# Altium schematic symbol library Schematic_Connector.SchLib: 35 symbols (part 1 of 2)
Pins are listed as number, name and electrical type; pins without a type are passive.

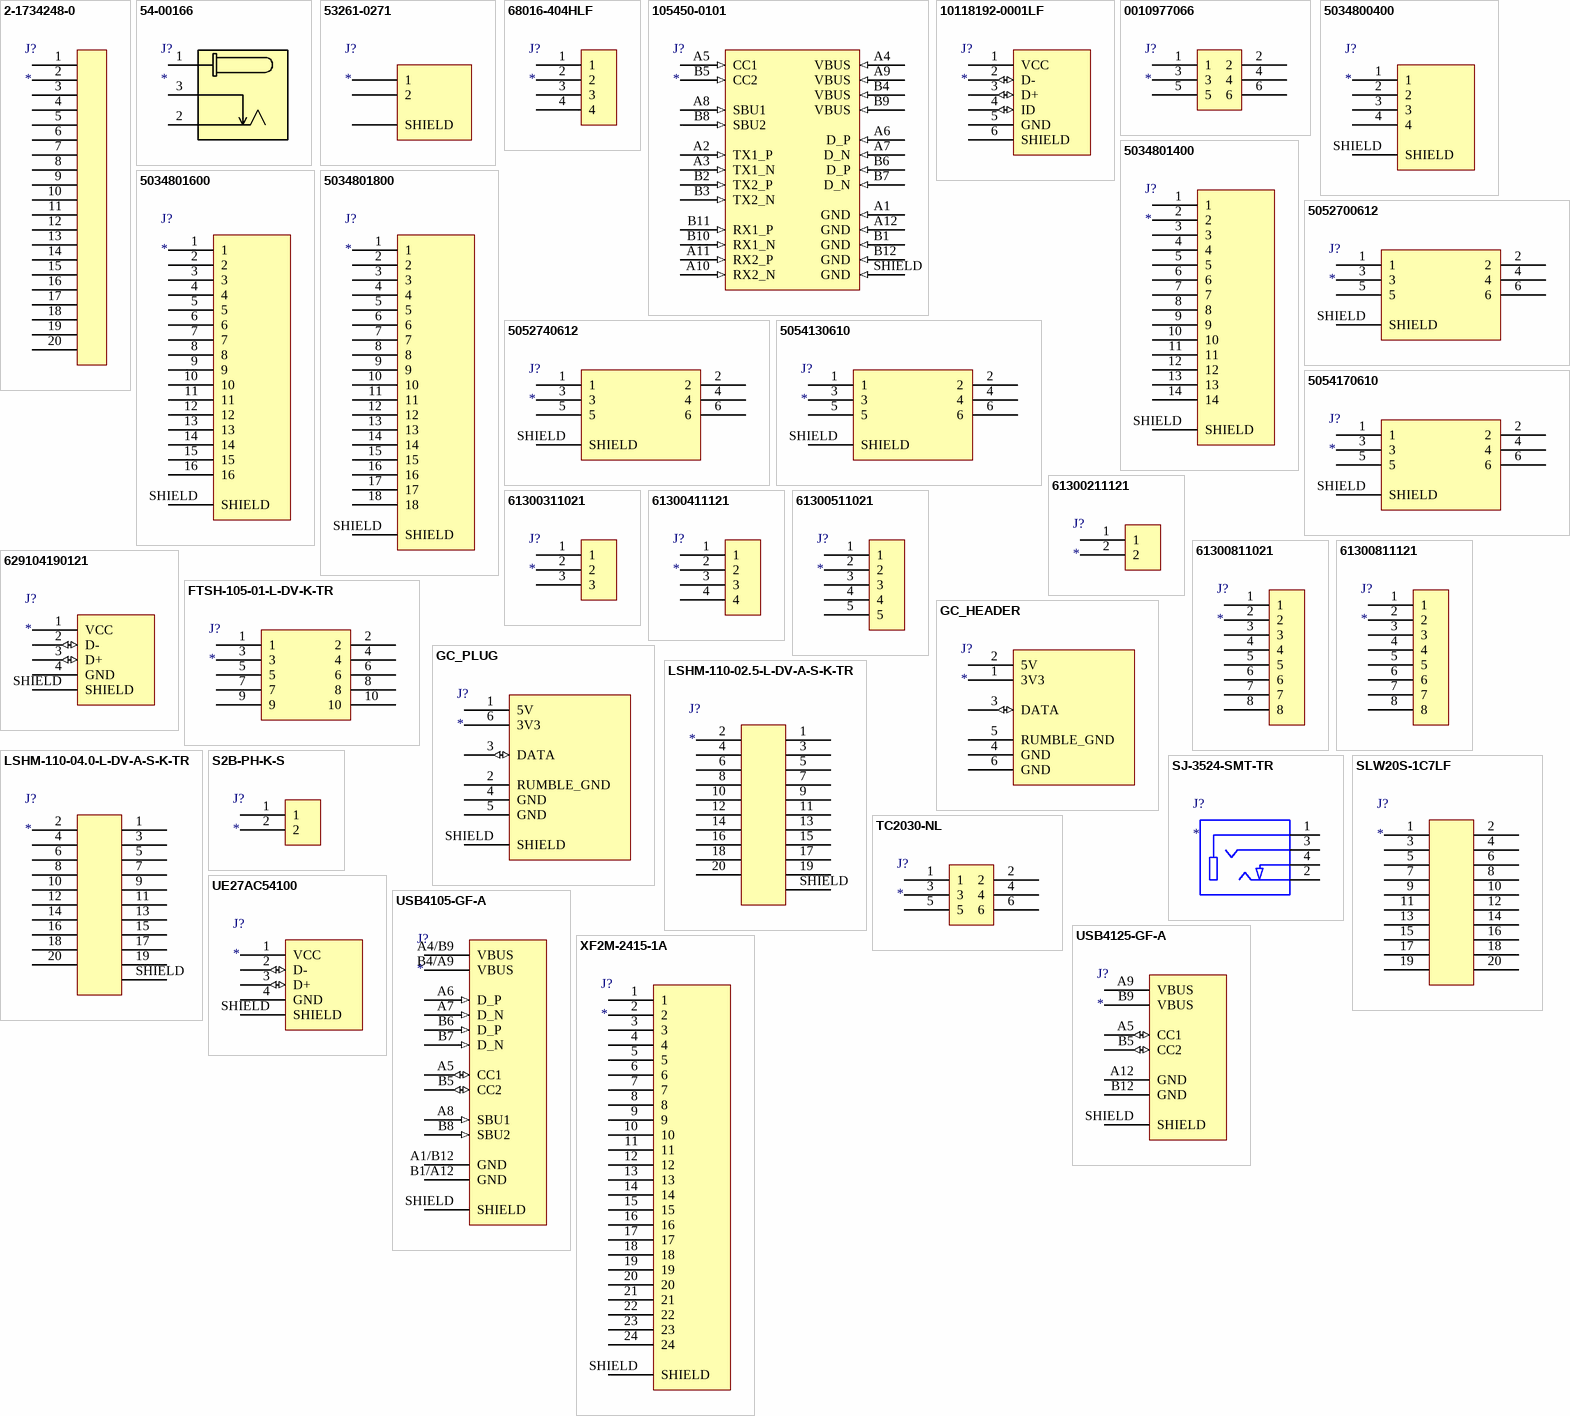
[diagram p0: symbols 2-1734248-0 to XF2M-2415-1A]

## 2-1734248-0
designator J?
FFC/FPC CONNECTOR, RECEPTACLE 20POS 1ROW; Manufacturer: TE Connectivity; Manufacturer Part Number: 2-1734248-0; Number of Contacts: 20; Contact Current Rating: 1A; Contact Location: Bottom; Connector Type: Receptacle,Connector,Socket; Wire/Cable Type: Flat Flex; Connector System: Flex-to-Board; Mating Alignment: Yes (With); PCB Mount Alignment: No (Without); PCB Mount Retention: With; PCB Mounting Orientation: Vertical; Gender: Male; Voltage Rating: 125V; Shielding: Unshielded; Pitch: 0.039inch; Supplier 1: Digi-Key; RoHS: Yes; Category: FFC / FPC; Stock 1: 651; Pricing 1: 1=1.62000, 10=1.47400, 25=1.38360, 50=1.32340, 100=1.26330, 250=1.14300, 500=1.05274 (USD); Mount: Surface Mount; Housing Color: Black; Housing Material: Thermoplastic; Contact Plating: Gold; Contact Material: Bronze; Min Operating Temperature: -4°C; Max Operating Temperature: 185°C; Termination: SMD/SMT; Orientation: Straight; Number of Rows: 1; Number of Positions: 20; Sealable: No (Without); Shrouded: Yes (With); Current Rating: 1A; Package Quantity: 1000; Packaging: Tape and Reel; Length: 27.4mm; Height: 7.7mm; Depth: 4.6mm; Width: 4.6mm; Radiation Hardening: No; REACH SVHC: Unknown; Flammability Rating: UL94 V-0; ELV: Compliant; Lead Free: Lead Free; ComponentLink1URL: https://datasheet.ciiva.com/1446/1652249-1446928.pdf?src-supplier=Farnell; ComponentLink1Description: https://datasheet.ciiva.com/1446/1652249-1446928.pdf?src-supplier=Farnell; ComponentLink2URL: https://datasheet.ciiva.com/43513/eng-ds-1-1773440-6-0506-43513462.pdf?src-supplier=Onlinecomponents.com; ComponentLink2Description: https://datasheet.ciiva.com/43513/eng-ds-1-1773440-6-0506-43513462.pdf?src-supplier=Onlinecomponents.com; ComponentLink3URL: https://datasheet.ciiva.com/669/eng-cd-1734248-e1-669771.pdf?src-supplier=Digi-Key; ComponentLink3Description: https://datasheet.ciiva.com/669/eng-cd-1734248-e1-669771.pdf?src-supplier=Digi-Key; ComponentLink4URL: https://datasheet.ciiva.com/669/eng-cd-1734248-e1-669772.pdf?src-supplier=Digi-Key; ComponentLink4Description: https://datasheet.ciiva.com/669/eng-cd-1734248-e1-669772.pdf?src-supplier=Digi-Key; ComponentLink5URL: https://datasheet.ciiva.com/669/eng-cd-1734248-e1-669773.pdf?src-supplier=Digi-Key; ComponentLink5Description: https://datasheet.ciiva.com/669/eng-cd-1734248-e1-669773.pdf?src-supplier=Digi-Key; ComponentLink6URL: https://datasheet.ciiva.com/1437/586796-1437710.pdf?src-supplier=Element14; ComponentLink6Description: https://datasheet.ciiva.com/1437/586796-1437710.pdf?src-supplier=Element14
footprint 2-1734248-0 (CONN FPC VERT 20POS 1.00MM SMD)
pins: 1, 2, 3, 4, 5, 6, 7, 8, 9, 10, 11, 12, 13, 14, 15, 16, 17, 18, 19, 20

## 54-00166
designator J?
Conn DC Power F 2 POS Solder RA Thru-Hole 3 Terminal 1 Port Bag; Manufacturer: Tensility; Manufacturer Part Number: 54-00166; Current Rating: 6A; Voltage Rating: 48V; Supplier 1: DigiKey; RoHS: Compliant; Category: Connectors; Stock 1: 8572; Pricing 1: 1=0.54, 10=0.456, 25=0.4276, 50=0.4072, 100=0.3876, 250=0.36332, 500=0.34596, 1000=0.32943, 2500=0.3088 (USD); Contact Plating: Tin; Max Operating Temperature: 70°C; Min Operating Temperature: -20°C; REACH SVHC: No; ComponentLink1URL: https://datasheet.octopart.com:443/54-00166-Tensility-datasheet-181385035.pdf?src-supplier=Master+Electronics; ComponentLink1Description: https://datasheet.octopart.com:443/54-00166-Tensility-datasheet-181385035.pdf?src-supplier=Master+Electronics
footprint 54-00166 (CONN JACK R/A PCB 5.5X2.1MM)
pins: 1 CENTER, 2 SLEEVE, 3 DETECT

## 53261-0271
designator J?
MOLEX - 53261-0271 - CONNECTOR, HEADER, 2POS, 1ROW, 1.25MM; Number of Positions: 2; Gender: Male; Contact Resistance: 20mR; Voltage Rating: 125V; Current Rating: 1A; Insulation Resistance: 100MR; Glow Wire Compliant: Non-compliant; Supplier 1: Digi-Key; Manufacturer: Molex; Manufacturer Part Number: 53261-0271; RoHS: Yes; Category: Headers and Wire Housings; Stock 1: 27056; Pricing 1: 1=0.51000, 10=0.48200, 100=0.36940, 500=0.32120 (USD); Mount: Surface Mount; Contact Material: Bronze,Tin; Contact Plating: Tin; Color: Beige; Housing Material: Thermoplastic; Min Operating Temperature: -40°C; Max Operating Temperature: 85°C; Number of Rows: 1; Packaging: Tape and Reel; Termination: SMD/SMT; Voltage Rating (AC): 125V; Package Quantity: 1000; Number of Contacts: 2; Working Voltage: 125V; Orientation: Right Angle; Number of Circuits: 2; Voltage Rating (DC): 125V; Lead Pitch: 1.25mm; Pitch: 1.25mm; Radiation Hardening: No; Flammability Rating: UL94 V-0; REACH SVHC: Unknown; Lead Free: Lead Free; ComponentLink1URL: https://datasheet.ciiva.com/11747/0900766b8078fc90-11747475.pdf?src-supplier=RSComponents; ComponentLink1Description: https://datasheet.ciiva.com/11747/0900766b8078fc90-11747475.pdf?src-supplier=RSComponents; ComponentLink2URL: https://datasheet.ciiva.com/7167/1626147-7167496.pdf?src-supplier=Newark; ComponentLink2Description: https://datasheet.ciiva.com/7167/1626147-7167496.pdf?src-supplier=Newark; ComponentLink3URL: https://datasheet.ciiva.com/30193/198270532610271-pcb-headers-30193321.pdf?src-supplier=Onlinecomponents.com; ComponentLink3Description: https://datasheet.ciiva.com/30193/198270532610271-pcb-headers-30193321.pdf?src-supplier=Onlinecomponents.com; ComponentLink4URL: https://datasheet.ciiva.com/5151/0532610271-pcb-headers-171053-5151611.pdf?src-supplier=Mouser; ComponentLink4Description: https://datasheet.ciiva.com/5151/0532610271-pcb-headers-171053-5151611.pdf?src-supplier=Mouser; ComponentLink5URL: https://datasheet.ciiva.com/34303/1932547-34303342.pdf?src-supplier=Jameco; ComponentLink5Description: https://datasheet.ciiva.com/34303/1932547-34303342.pdf?src-supplier=Jameco; ComponentLink6URL: https://datasheet.ciiva.com/16658/0532610271-pcb-headers-16658423.pdf?src-supplier=Avnet+Europe; ComponentLink6Description: https://datasheet.ciiva.com/16658/0532610271-pcb-headers-16658423.pdf?src-supplier=Avnet+Europe; ComponentLink7URL: https://datasheet.ciiva.com/17035/70091115-17035863.pdf?src-supplier=Allied+Electronics; ComponentLink7Description: https://datasheet.ciiva.com/17035/70091115-17035863.pdf?src-supplier=Allied+Electronics; ComponentLink8URL: https://datasheet.ciiva.com/7920/1887027-7920826.pdf?src-supplier=Element14; ComponentLink8Description: https://datasheet.ciiva.com/7920/1887027-7920826.pdf?src-supplier=Element14; ComponentLink9URL: https://datasheet.ciiva.com/9468/0532610271-pcb-headers-9468506.pdf?src-supplier=Avnet; ComponentLink9Description: https://datasheet.ciiva.com/9468/0532610271-pcb-headers-9468506.pdf?src-supplier=Avnet; ComponentLink10URL: https://datasheet.ciiva.com/22683/1626147-22683562.pdf?src-supplier=Element14; ComponentLink10Description: https://datasheet.ciiva.com/22683/1626147-22683562.pdf?src-supplier=Element14; ComponentLink11URL: https://datasheet.ciiva.com/46393/1808526-46393547.pdf?src-supplier=Element14; ComponentLink11Description: https://datasheet.ciiva.com/46393/1808526-46393547.pdf?src-supplier=Element14
footprint 0532610271 (CONN HEADER SMD R/A 2POS 1.25MM)
pins: 1, 2, SHIELD

## 68016-404HLF
designator J?
CONN HEADER 4POS .100 R/A TIN; Manufacturer: Amphenol FCI; Manufacturer Part Number: 68016-404HLF; Current Rating: 3A; Voltage Rating: 1.5kV; Number of Positions: 4; Insulation Resistance: 5GR; Gender: Male; Connector Type: Male Pin; Pitch: 2.54mm; Contact Post Length: 3.05mm; Supplier 1: Digi-Key; Stock 1: 4219; Pricing 1: 1=0.18000, 10=0.17000, 100=0.11800, 500=0.09988, 1000=0.08172, 5000=0.07264, 10000=0.06583 (USD); RoHS: Yes; Mount: Through Hole; Contact Plating: Tin; Contact Material: Bronze; Color: Black; Housing Color: Black; Housing Material: Thermoplastic; Min Operating Temperature: -65°C; Max Operating Temperature: 125°C; Number of Rows: 1; Contact Gender: Male; Packaging: Bulk; Package Quantity: 100; Termination: Solder; Number of Contacts: 4; Max Voltage Rating (AC): 1.5kV; Orientation: Right Angle; Length: 10.16mm; Contact Mating Length: 0.23inch; Depth: 9.9mm; Radiation Hardening: No; Flammability Rating: UL94 V-0; Lead Free: Lead Free; ComponentLink1URL: https://datasheet.ciiva.com/10144/68015-10144694.pdf?src-supplier=Avnet; ComponentLink1Description: https://datasheet.ciiva.com/10144/68015-10144694.pdf?src-supplier=Avnet; ComponentLink2URL: https://datasheet.ciiva.com/721/68015-721854.pdf?src-supplier=Digi-Key; ComponentLink2Description: https://datasheet.ciiva.com/721/68015-721854.pdf?src-supplier=Digi-Key
footprint 68016-404HLF (CONN HEADER 4POS .100 R/A TIN)
pins: 1, 2, 3, 4

## 105450-0101
designator J?
USB Shielded I/O Receptacle; Type C; Right Angle; Surface Mount; Gold over Nickel; Manufacturer: Molex; Manufacturer Part Number: 105450-0101; USB Standard: USB 3.1; Number of Contacts: 24; Number of Ports: 1; Current Rating: 5A; Mating Cycles: 10000; Pitch: 0.5mm; Supplier 1: Digi-Key; RoHS: Yes; Category: Connectors; Stock 1: 5403; Pricing 1: 1=2.15000, 10=1.94900, 25=1.82960, 50=1.75000, 100=1.67050, 250=1.51140, 500=1.39208 (USD); Mount: Surface Mount,Through Hole,Horizontal; Case/Package: 0101; Number of Pins: 24; Contact Material: Copper Alloy; Contact Plating: Gold; Number of Terminals: 24; Insulation Color: Black; Housing Material: Thermoplastic; Min Operating Temperature: -30°C; Max Operating Temperature: 85°C; Packaging: Tape and Reel; Connector Type: USB; Gender: Receptacle; Termination: Solder; Orientation: Right Angle; Shielding: Shielded; Features: Shielded; Length: 8.94mm; REACH SVHC: Unknown; Flammability Rating: UL94 V-0; ComponentLink1URL: http://www.farnell.com/datasheets/2801634.pdf?src-supplier=Farnell; ComponentLink1Description: http://www.farnell.com/datasheets/2801634.pdf?src-supplier=Farnell; ComponentLink2URL: http://www.farnell.com/datasheets/2672741.pdf?src-supplier=Newark; ComponentLink2Description: http://www.farnell.com/datasheets/2672741.pdf?src-supplier=Newark; ComponentLink3URL: http://www.farnell.com/datasheets/2015275.pdf?src-supplier=Element14; ComponentLink3Description: http://www.farnell.com/datasheets/2015275.pdf?src-supplier=Element14; ComponentLink4URL: https://www.molex.com/pdm_docs/ps/PS-105448-001.pdf?src-supplier=Digi-Key; ComponentLink4Description: https://www.molex.com/pdm_docs/ps/PS-105448-001.pdf?src-supplier=Digi-Key; ComponentLink5URL: http://www.farnell.com/datasheets/2801634.pdf?src-supplier=Newark; ComponentLink5Description: http://www.farnell.com/datasheets/2801634.pdf?src-supplier=Newark; ComponentLink6URL: https://www.molex.com/pdm_docs/sd/1054500101_sd.pdf?src-supplier=Digi-Key; ComponentLink6Description: https://www.molex.com/pdm_docs/sd/1054500101_sd.pdf?src-supplier=Digi-Key; ComponentLink7URL: http://www.farnell.com/datasheets/2801634.pdf?src-supplier=Element14; ComponentLink7Description: http://www.farnell.com/datasheets/2801634.pdf?src-supplier=Element14; ComponentLink8URL: http://www.literature.molex.com/SQLImages/kelmscott/Molex/PDF_Images/987651-4081.PDF?src-supplier=Avnet; ComponentLink8Description: http://www.literature.molex.com/SQLImages/kelmscott/Molex/PDF_Images/987651-4081.PDF?src-supplier=Avnet; ComponentLink9URL: http://www.literature.molex.com/SQLImages/kelmscott/Molex/PDF_Images/987651-4081.PDF?src-supplier=Avnet+Asia; ComponentLink9Description: http://www.literature.molex.com/SQLImages/kelmscott/Molex/PDF_Images/987651-4081.PDF?src-supplier=Avnet+Asia
footprint 1054500101 (CONN RCP USB3.1 TYPEC 24P SMD RA)
pins: A1 GND (in), A2 TX1_P (in), A3 TX1_N (in), A4 VBUS (in), A5 CC1 (in), A6 D_P (in), A7 D_N (in), A8 SBU1 (in), A9 VBUS (in), A10 RX2_N (in), A11 RX2_P (in), A12 GND (in), B1 GND (in), B2 TX2_P (in), B3 TX2_N (in), B4 VBUS (in), B5 CC2 (in), B6 D_P (in), B7 D_N (in), B8 SBU2 (in), B9 VBUS (in), B10 RX1_N (in), B11 RX1_P (in), B12 GND (in), SHIELD GND (in)

## 10118192-0001LF
designator J?
Conn Micro USB 2.0 Type B RCP 5 POS 0.65mm Solder RA SMD 5 Terminal 1 Port T/R; Manufacturer: Framatome Connectors; Manufacturer Part Number: 10118192-0001LF; Gender: Receptacle; Current Rating: 1.8A; Number of Contacts: 5; Insulation Resistance: 1GR; Number of Ports: 1; Max Voltage Rating (AC): 100V; USB Standard: USB 2.0; Supplier 1: Digi-Key; Stock 1: 43734; Pricing 1: 1 = 0.43000, 10 = 0.40500, 25 = 0.36440, 50 = 0.32400, 100 = 0.31040, 250 = 0.28344, 500 = 0.26994 (USD); Mount: Surface Mount; Contact Material: Copper Alloy; Contact Plating: Gold; Color: Black; Number of Terminals: 5; Housing Material: Polymer; Min Operating Temperature: -55°C; Max Operating Temperature: 85°C; Packaging: Tape and Reel; Package Quantity: 1400; Connector Type: USB; Termination: Solder; Voltage Rating: 100V; Orientation: Right Angle; Features: Shielded; Length: 7.86mm; Pitch: 0.65mm; Depth: 5.57mm; Radiation Hardening: No; REACH SVHC: No SVHC; Lead Free: Lead Free; Flammability Rating: UL94 V-0; ComponentLink1URL: https://datasheet.ciiva.com/26853/getdatasheetpartid-418041-26853891.pdf?src-supplier=Verical; ComponentLink1Description: https://datasheet.ciiva.com/26853/getdatasheetpartid-418041-26853891.pdf?src-supplier=Verical; ComponentLink2URL: https://datasheet.ciiva.com/851/10118192-851112.pdf?src-supplier=Digi-Key; ComponentLink2Description: https://datasheet.ciiva.com/851/10118192-851112.pdf?src-supplier=Digi-Key; ComponentLink3URL: https://datasheet.ciiva.com/4598/10118192ac-197249-4598796.pdf?src-supplier=Mouser; ComponentLink3Description: https://datasheet.ciiva.com/4598/10118192ac-197249-4598796.pdf?src-supplier=Mouser; ComponentLink4URL: http://datasheet.octopart.com/10118192-0001LF-FCI-datasheet-55953129.pdf?src-supplier=TME; ComponentLink4Description: http://datasheet.octopart.com/10118192-0001LF-FCI-datasheet-55953129.pdf?src-supplier=TME; ComponentLink5URL: http://datasheet.octopart.com/10118192-0001LF-FCI-datasheet-13423637.pdf?src-supplier=Allied+Electronics; ComponentLink5Description: http://datasheet.octopart.com/10118192-0001LF-FCI-datasheet-13423637.pdf?src-supplier=Allied+Electronics; ComponentLink6URL: http://datasheet.octopart.com/10118192-0001LF-Amphenol-datasheet-96019471.pdf?src-supplier=Newark; ComponentLink6Description: http://datasheet.octopart.com/10118192-0001LF-Amphenol-datasheet-96019471.pdf?src-supplier=Newark; ComponentLink7URL: http://datasheet.octopart.com/10118192-0001LF-Amphenol-ICC-datasheet-96019471.pdf?src-supplier=Element14; ComponentLink7Description: http://datasheet.octopart.com/10118192-0001LF-Amphenol-ICC-datasheet-96019471.pdf?src-supplier=Element14; ComponentLink8URL: http://datasheet.octopart.com/10118192-0001LF-Amphenol-ICC-datasheet-55953129.pdf?src-supplier=Future+Electronics; ComponentLink8Description: http://datasheet.octopart.com/10118192-0001LF-Amphenol-ICC-datasheet-55953129.pdf?src-supplier=Future+Electronics; ComponentLink9URL: http://datasheet.octopart.com/10118192-0001LF-Amphenol-ICC-datasheet-13423637.pdf?src-supplier=Allied+Electronics; ComponentLink9Description: http://datasheet.octopart.com/10118192-0001LF-Amphenol-ICC-datasheet-13423637.pdf?src-supplier=Allied+Electronics; ComponentLink10URL: http://datasheet.octopart.com/10118192-0001LF-ICC-datasheet-96019471.pdf?src-supplier=Farnell; ComponentLink10Description: http://datasheet.octopart.com/10118192-0001LF-ICC-datasheet-96019471.pdf?src-supplier=Farnell; ComponentLink11URL: http://datasheet.octopart.com/10118192-0001LF-ICC-datasheet-55953129.pdf?src-supplier=Farnell; ComponentLink11Description: http://datasheet.octopart.com/10118192-0001LF-ICC-datasheet-55953129.pdf?src-supplier=Farnell
footprint 10118192-0001LF (Conn Micro USB 2.0 Type B RCP 5 POS 0.65mm Solder RA SMD 5 Terminal 1 Port T/R)
pins: 1 VCC (power), 2 D- (io), 3 D+ (io), 4 ID (io), 5 GND (power), 6 SHIELD

## 0010977066
designator J?
Conn Unshrouded Header HDR 6 POS 2.54mm Solder ST Thru-Hole C-GridR Bag; Manufacturer: Molex; Manufacturer Part Number: 0010977066; Contact Resistance: 15mR; Number of Positions: 6; Gender: Male; Connector Type: Male Pin; Row Spacing: 0.1inch; Supplier 1: Digi-Key; RoHS: Yes; Category: Headers and Wire Housings; Stock 1: 5007; Pricing 1: 1=0.51000, 10=0.43300, 100=0.33700, 1000=0.26481, 5000=0.23271, 10000=0.21666 (USD); Mount: Through Hole; Contact Plating: Gold; Contact Material: Copper Alloy; Housing Material: Polymer; Color: Black; Housing Color: Black; Min Operating Temperature: -40°C; Max Operating Temperature: 105°C; Number of Rows: 2; Packaging: Bulk; Termination: Solder; Number of Contacts: 6; Orientation: Straight; Series: C-Grid® 70280; Contact Type: Male Pin; Length: 7.62mm; Pitch: 2.54mm; Contact Mating Length: 0.32inch; Depth: 5.08mm; RoHS Compliant: Yes; ComponentLink1URL: https://datasheet.ciiva.com/742/010879125-sd-742670.pdf?src-supplier=Digi-Key; ComponentLink1Description: https://datasheet.ciiva.com/742/010879125-sd-742670.pdf?src-supplier=Digi-Key; ComponentLink2URL: https://datasheet.ciiva.com/10087/0010977066-pcb-headers-10087740.pdf?src-supplier=Avnet; ComponentLink2Description: https://datasheet.ciiva.com/10087/0010977066-pcb-headers-10087740.pdf?src-supplier=Avnet
footprint 3X2 MALE HEADER (CONN HEADER VERT 6POS 2.54MM)
pins: 1, 2, 3, 4, 5, 6

## 5034800400
designator J?
CONN FFC FPC 4POS 0.50MM R/A; Manufacturer: Molex; Manufacturer Part Number: 5034800400; Actuator Material: Nylon,Glass,Polyamide; Current Rating: 500mA; Voltage Rating: 50V; Wire/Cable Type: Straight; Number of Positions: 4; Mating Cycles: 10; Stackable: No; Gender: Female; Pitch: 0.5mm; Supplier 1: Digi-Key; RoHS: Yes; Category: FFC / FPC; Stock 1: 13432; Pricing 1: 1=0.70000, 10=0.65200, 25=0.58640, 50=0.52140, 100=0.49970, 250=0.45624, 500=0.43450, 1000=0.35846 (USD); Contact Material: Bronze; Contact Plating: Gold; Housing Color: White; Housing Material: Polymer; Material: Bronze; Min Operating Temperature: -40°C; Max Operating Temperature: 85°C; Number of Rows: 1; Orientation: Right Angle; Termination: Solder; Package Quantity: 1; Packaging: Tape and Reel; Max Voltage Rating (AC): 50V; Number of Contacts: 4; Max Voltage Rating (DC): 50V; Number of Circuits: 4; Voltage Rating (AC): 50V; Length: 3.7mm; Depth: 4mm; Radiation Hardening: No; Flammability Rating: UL94 V-0; REACH SVHC: No SVHC; Halogen Free: Low Halogen; ELV: Compliant; ComponentLink1URL: https://datasheet.ciiva.com/671/5034800400-sd-671136.pdf?src-supplier=Digi-Key; ComponentLink1Description: https://datasheet.ciiva.com/671/5034800400-sd-671136.pdf?src-supplier=Digi-Key; ComponentLink2URL: https://datasheet.ciiva.com/15249/392825034800400-ffc-fpc-nectors-15249120.pdf?src-supplier=Arrow+Europe; ComponentLink2Description: https://datasheet.ciiva.com/15249/392825034800400-ffc-fpc-nectors-15249120.pdf?src-supplier=Arrow+Europe; ComponentLink3URL: https://datasheet.ciiva.com/16658/5034800400-ffc-fpc-connectors-16658883.pdf?src-supplier=Avnet+Europe; ComponentLink3Description: https://datasheet.ciiva.com/16658/5034800400-ffc-fpc-connectors-16658883.pdf?src-supplier=Avnet+Europe; ComponentLink4URL: https://datasheet.ciiva.com/3926/135095034800400-ffc-fpc-nectors-3926214.pdf?src-supplier=Arrow; ComponentLink4Description: https://datasheet.ciiva.com/3926/135095034800400-ffc-fpc-nectors-3926214.pdf?src-supplier=Arrow; ComponentLink5URL: https://datasheet.ciiva.com/5137/5034800400-ffc-fpc-connectors-179546-5137607.pdf?src-supplier=Mouser; ComponentLink5Description: https://datasheet.ciiva.com/5137/5034800400-ffc-fpc-connectors-179546-5137607.pdf?src-supplier=Mouser; ComponentLink6URL: https://datasheet.ciiva.com/671/5034800400-sd-671137.pdf?src-supplier=Digi-Key; ComponentLink6Description: https://datasheet.ciiva.com/671/5034800400-sd-671137.pdf?src-supplier=Digi-Key; ComponentLink7URL: https://datasheet.ciiva.com/671/5034800400-sd-671138.pdf?src-supplier=Digi-Key; ComponentLink7Description: https://datasheet.ciiva.com/671/5034800400-sd-671138.pdf?src-supplier=Digi-Key; ComponentLink8URL: https://datasheet.ciiva.com/10366/5034800400-ffc-fpc-connectors-10366566.pdf?src-supplier=Avnet; ComponentLink8Description: https://datasheet.ciiva.com/10366/5034800400-ffc-fpc-connectors-10366566.pdf?src-supplier=Avnet
footprint 5034800400 (CONN FFC FPC 4POS 0.50MM R/A)
pins: 1, 2, 3, 4, SHIELD

## 5034801400
designator J?
CONN FFC FPC 14POS 0.50MM R/A; Manufacturer: Molex; Manufacturer Part Number: 5034801400; Actuator Material: Nylon,Glass,Polyamide; Number of Contacts: 14; Stackable: No; Max Voltage Rating (AC): 50V; Gender: Receptacle; Current Rating: 500mA; Wire/Cable Type: Straight; Mating Cycles: 10; Pitch: 0.5mm; Supplier 1: Digi-Key; RoHS: Yes; Category: FFC / FPC; Stock 1: 6972; Pricing 1: 1=1.24000, 10=1.08800, 25=1.02440, 50=0.98160, 100=0.93900, 250=0.85360, 500=0.76824, 1000=0.68288 (USD); Housing Material: Polymer; Material: Bronze; Housing Color: White; Contact Material: Bronze; Contact Plating: Gold; Min Operating Temperature: -40°C; Max Operating Temperature: 85°C; Termination: Solder; Orientation: Right Angle; Number of Rows: 1; Number of Positions: 14; Max Voltage Rating (DC): 50V; Packaging: Tape and Reel; Number of Circuits: 14; Package Quantity: 3000; Voltage Rating: 50V; Length: 8.7mm; Depth: 4mm; Radiation Hardening: No; Flammability Rating: UL94 V-0; REACH SVHC: Unknown; Halogen Free: Low Halogen; ELV: Compliant; ComponentLink1URL: https://datasheet.ciiva.com/671/5034800400-sd-671136.pdf?src-supplier=Digi-Key; ComponentLink1Description: https://datasheet.ciiva.com/671/5034800400-sd-671136.pdf?src-supplier=Digi-Key; ComponentLink2URL: https://datasheet.ciiva.com/5136/5034801400-ffc-fpc-connectors-179606-5136966.pdf?src-supplier=Mouser; ComponentLink2Description: https://datasheet.ciiva.com/5136/5034801400-ffc-fpc-connectors-179606-5136966.pdf?src-supplier=Mouser; ComponentLink3URL: https://datasheet.ciiva.com/10364/5034801400-ffc-fpc-connectors-10364270.pdf?src-supplier=Avnet; ComponentLink3Description: https://datasheet.ciiva.com/10364/5034801400-ffc-fpc-connectors-10364270.pdf?src-supplier=Avnet; ComponentLink4URL: https://datasheet.ciiva.com/671/5034801400-sd-671233.pdf?src-supplier=Digi-Key; ComponentLink4Description: https://datasheet.ciiva.com/671/5034801400-sd-671233.pdf?src-supplier=Digi-Key
footprint 5034801400 (CONN FFC FPC 14POS 0.50MM R/A)
pins: 1, 2, 3, 4, 5, 6, 7, 8, 9, 10, 11, 12, 13, 14, SHIELD

## 5034801600
designator J?
CONN FFC FPC 16POS 0.50MM R/A; Manufacturer: Molex; Manufacturer Part Number: 5034801600; Actuator Material: Nylon,Glass,Polyamide; Current Rating: 500mA; Voltage Rating: 50V; Wire/Cable Type: Straight; Number of Positions: 16; Mating Cycles: 10; Gender: Receptacle; Pitch: 0.5mm; Supplier 1: Digi-Key; RoHS: Yes; Category: FFC / FPC; Stock 1: 18938; Pricing 1: 1=1.32000, 10=1.15900, 25=1.09040, 50=1.04500, 100=0.99950, 250=0.90868, 500=0.81782, 1000=0.72694 (USD); Mount: Surface Mount; Contact Material: Bronze; Contact Plating: Gold; Housing Color: White; Housing Material: Polymer; Material: Bronze; Min Operating Temperature: -40°C; Max Operating Temperature: 85°C; Number of Rows: 1; Packaging: Tape and Reel; Package Quantity: 3000; Orientation: Right Angle; Termination: Solder; Number of Contacts: 16; Number of Circuits: 16; Voltage Rating (AC): 50V; Max Voltage Rating (AC): 50V; Max Voltage Rating (DC): 50V; Length: 9.7mm; Depth: 4mm; Radiation Hardening: No; Flammability Rating: UL94 V-0; Halogen Free: Low Halogen; ELV: Compliant; REACH SVHC: No SVHC; ComponentLink1URL: https://datasheet.ciiva.com/671/5034800400-sd-671136.pdf?src-supplier=Digi-Key; ComponentLink1Description: https://datasheet.ciiva.com/671/5034800400-sd-671136.pdf?src-supplier=Digi-Key; ComponentLink2URL: https://datasheet.ciiva.com/5137/5034801600-ffc-fpc-connectors-5137490.pdf?src-supplier=Mouser; ComponentLink2Description: https://datasheet.ciiva.com/5137/5034801600-ffc-fpc-connectors-5137490.pdf?src-supplier=Mouser; ComponentLink3URL: https://datasheet.ciiva.com/15246/110695034801600-ffc-fpc-nectors-15246141.pdf?src-supplier=Arrow+Europe; ComponentLink3Description: https://datasheet.ciiva.com/15246/110695034801600-ffc-fpc-nectors-15246141.pdf?src-supplier=Arrow+Europe; ComponentLink4URL: https://datasheet.ciiva.com/671/5034801600-sd-671268.pdf?src-supplier=Digi-Key; ComponentLink4Description: https://datasheet.ciiva.com/671/5034801600-sd-671268.pdf?src-supplier=Digi-Key; ComponentLink5URL: https://datasheet.ciiva.com/671/5034801600-sd-671269.pdf?src-supplier=Digi-Key; ComponentLink5Description: https://datasheet.ciiva.com/671/5034801600-sd-671269.pdf?src-supplier=Digi-Key
footprint 5034801600 (CONN FFC FPC 16POS 0.50MM R/A)
pins: 1, 2, 3, 4, 5, 6, 7, 8, 9, 10, 11, 12, 13, 14, 15, 16, SHIELD

## 5034801800
designator J?
CONN FFC FPC 18POS 0.50MM R/A; Manufacturer: Molex; Manufacturer Part Number: 5034801800; Actuator Material: Nylon,Glass,Polyamide; Number of Positions: 18; Max Voltage Rating (AC): 50V; Current Rating: 500mA; Mating Cycles: 10; Stackable: No; Contact Location: Dual; Gender: Receptacle; Wire/Cable Type: Straight; Pitch: 0.5mm; Supplier 1: Digi-Key; RoHS: Yes; Category: FFC / FPC; Stock 1: 15433; Pricing 1: 1=1.44000, 10=1.31000, 25=1.23000, 50=1.17660, 100=1.12310, 250=1.01616, 500=0.93594, 1000=0.80223 (USD); Housing Material: Polymer; Contact Material: Bronze,Gold; Housing Color: White; Contact Plating: Gold,Tin; Material: Bronze; Min Operating Temperature: -40°C; Max Operating Temperature: 85°C; Packaging: Tape and Reel; Termination: SMD/SMT; Number of Contacts: 18; Orientation: Right Angle; Number of Rows: 1; Package Quantity: 3000; Voltage Rating: 50V; Number of Circuits: 18; Voltage Rating (AC): 50V; Length: 10.7mm; Depth: 4mm; Radiation Hardening: No; Flammability Rating: UL94 V-0; REACH SVHC: Unknown; Halogen Free: Low Halogen; ELV: Compliant; ComponentLink1URL: https://datasheet.ciiva.com/671/5034800400-sd-671136.pdf?src-supplier=Digi-Key; ComponentLink1Description: https://datasheet.ciiva.com/671/5034800400-sd-671136.pdf?src-supplier=Digi-Key; ComponentLink2URL: https://datasheet.ciiva.com/5137/5034801800-ffc-fpc-connectors-179548-5137672.pdf?src-supplier=Mouser; ComponentLink2Description: https://datasheet.ciiva.com/5137/5034801800-ffc-fpc-connectors-179548-5137672.pdf?src-supplier=Mouser; ComponentLink3URL: https://datasheet.ciiva.com/10366/5034801800-ffc-fpc-connectors-10366583.pdf?src-supplier=Avnet; ComponentLink3Description: https://datasheet.ciiva.com/10366/5034801800-ffc-fpc-connectors-10366583.pdf?src-supplier=Avnet
footprint 5034801800 (CONN FFC FPC 18POS 0.50MM R/A)
pins: 1, 2, 3, 4, 5, 6, 7, 8, 9, 10, 11, 12, 13, 14, 15, 16, 17, 18, SHIELD

## 5052700612
designator J?
Stacking Board Connector Receptacle 6 Position 0.8mm Stack Height Surface Mount Emboss T/R; Manufacturer: Molex; Manufacturer Part Number: 5052700612; Number of Positions: 6; Supplier 1: Digikey; RoHS: Yes; Category: Headers and Wire Housings; Stock 1: 978; Pricing 1: 1=0.6, 10=0.504, 100=0.3924, 1000=0.3083, 2500=0.28028 (USD); Mounting Technology: Surface Mount; Contact Plating: Gold; Connector Type: Receptacle; Packaging: Tape and Reel; Number of Rows: 2; Series: SlimStack Armor 505270; Mated Stacking Heights: 0.8mm; RoHS Compliant: Yes
footprint 5052700612 (6 Position Connector Receptacle, Center Strip Contacts Surface Mount Gold)
pins: 1, 2, 3, 4, 5, 6, SHIELD

## 5052740612
designator J?
Conn Stacking HDR Plug 0.8mm Stack Height 6 POS 0.35mm Solder ST SMD Emboss T/R; Manufacturer: Molex; Manufacturer Part Number: 5052740612; Number of Positions: 6; Supplier 1: Digikey; RoHS: Yes; Category: Headers and Wire Housings; Stock 1: 3231; Pricing 1: 1=0.6, 10=0.504, 100=0.3924, 1000=0.3083, 2500=0.28028 (USD); Mounting Technology: Surface Mount; Contact Plating: Gold; Connector Type: Plug; Packaging: Tape and Reel; Number of Rows: 2; Series: SlimStack Armor 505274; Mated Stacking Heights: 0.8mm; RoHS Compliant: Yes
footprint 5052740612 (6 Position Connector Plug, Outer Shroud Contacts Surface Mount Gold)
pins: 1, 2, 3, 4, 5, 6, SHIELD

## 5054130610
designator J?
Stacking Board Connector Receptacle 6 Position 1 mm Stack Height Surface Mount Emboss T/R; Manufacturer: Molex; Manufacturer Part Number: 505413-0610; Supplier 1: Digikey; RoHS: No; Category: Headers and Wire Housings; Stock 1: 52373; Pricing 1: 1=0.66, 10=0.558, 100=0.4342, 1000=0.34113, 2500=0.31012 (USD)
footprint 5054130610 (6 Position Connector Receptacle, Center Strip Contacts Surface Mount Gold)
pins: 1, 2, 3, 4, 5, 6, SHIELD

## 5054170610
designator J?
Stacking Board Connector Plug 6 Position 1mm Stack Height Surface Mount Emboss T/R; Manufacturer: Molex; Manufacturer Part Number: 5054170610; Supplier 1: Digikey; RoHS: Yes; Category: Headers and Wire Housings; Stock 1: 46711; Pricing 1: 1=0.65, 10=0.552, 100=0.4293, 1000=0.3373, 2500=0.30664 (USD)
footprint 5054170610 (6 Position Connector Plug, Outer Shroud Contacts Surface Mount Gold)
pins: 1, 2, 3, 4, 5, 6, SHIELD

## 61300211121
designator J?
Headers & Wire Housings WR-PHD 2.54mm 2Pin THT Header; Manufacturer: Wurth Electronics; Manufacturer Part Number: 61300211121; Current Rating: 3A; Voltage Rating: 250V; Number of Positions: 2; Gender: Male; Connector Type: Male Pin; Pitch: 0.1inch; Supplier 1: Digi-Key; Stock 1: 208781; Pricing 1: 1=0.13000, 10=0.10600, 25=0.08800, 50=0.07400, 100=0.06700, 1000=0.06100 (USD); RoHS: Yes; Mount: Through Hole; Contact Plating: Gold; Housing Material: PBT; Contact Material: Copper Alloy,Copper; Color: Black; Min Operating Temperature: -40°C; Max Operating Temperature: 125°C; Number of Rows: 1; Contact Gender: Male; Packaging: Bulk; Termination: Through Hole; Number of Contacts: 2; Contact Mating Length: 0.236inch; REACH SVHC: Unknown; Lead Free: Lead Free; ComponentLink1URL: https://datasheet.ciiva.com/13619/6130xx11121-48870-13619345.pdf?src-supplier=Mouser; ComponentLink1Description: https://datasheet.ciiva.com/13619/6130xx11121-48870-13619345.pdf?src-supplier=Mouser
footprint 2X1 MALE HEADER (CONN HEADER VERT 2POS 2.54MM)
pins: 1, 2

## 61300311021
designator J?
THT Angled Pin Header WR-PHD, Pitch 2.54 mm, Single Row, 3 pins; Manufacturer: Wurth Electronics; Manufacturer Part Number: 61300311021; Number of Positions: 3; Gender: Male; Voltage Rating: 250V; Supplier 1: Digi-Key; RoHS: Yes; Category: Connectors; Stock 1: 2959; Pricing 1: 1=0.4, 10=0.336, 25=0.28, 50=0.234, 100=0.212, 1000=0.193 (USD); Mounting Technology: Through Hole; Contact Plating: Gold; Contact Material: Copper Alloy,Copper; Contact Shape: Square; Contact Finish - Mating: GOLD; Insulation Material: Nylon; Insulation Color: Black; Min Operating Temperature: -40°C; Max Operating Temperature: 125°C; Number of Rows: 1; Termination: Solder; Number of Contacts: 3; Connector Type: Header; Fastening Type: Pull; Series: WR-PHD; Contact Type: Male Pin; RoHS Compliant: Yes; Flammability Rating: UL94 V-0; Reach SVHC Compliant: Unknown; ComponentLink1URL: https://datasheet.ciiva.com/28505/1442172-28505353.pdf?src-supplier=Element14; ComponentLink1Description: https://datasheet.ciiva.com/28505/1442172-28505353.pdf?src-supplier=Element14
footprint 3X1 MALE HEADER RA (CONN HEADER VERT 3POS 2.54MM)
pins: 1, 2, 3

## 61300411121
designator J?
THT Vertical Pin Header WR-PHD, Pitch 2.54 mm, Single Row, 4 pins; Manufacturer: Wurth Electronics; Manufacturer Part Number: 61300411121; Number of Positions: 4; Operating Supply Voltage: 250V; Contact Resistance: 20mR; Current Rating: 3A; Gender: 29Gender; Pitch: 0.1inch; Supplier 1: Digikey; RoHS: Yes; Category: Headers and Wire Housings; Stock 1: 23079; Pricing 1: 1=0.19, 10=0.163, 25=0.1352, 50=0.113, 100=0.102, 1000=0.094 (USD); Mounting Technology: Through Hole; Contact Plating: Gold; Contact Material: Copper; Color: Black; Min Operating Temperature: -40°C; Max Operating Temperature: 105°C; Number of Rows: 1; Packaging: Bulk; Termination: Solder; Number of Contacts: 4; Series: WR-PHD; Contact Type: Male Pin; Orientation: 5495OrientationType; Voltage Rating: 250V; Height: 8.89mm; Contact Mating Length: 0.236inch; RoHS Compliant: Yes; Reach SVHC Compliant: Unknown; Lead Free: 5697LeadFree; ComponentLink1URL: http://www.farnell.com/cad/1737268.pdf?src-supplier=Element14; ComponentLink1Description: http://www.farnell.com/cad/1737268.pdf?src-supplier=Element14; ComponentLink2URL: https://datasheet.octopart.com/61300411121-W%C3%BCrth-Elektronik-datasheet-21154836.pdf?src-supplier=Element14; ComponentLink2Description: https://datasheet.octopart.com/61300411121-W%C3%BCrth-Elektronik-datasheet-21154836.pdf?src-supplier=Element14; ComponentLink3URL: https://katalog.we-online.de/em/datasheet/6130xx11121.pdf?src-supplier=Digikey; ComponentLink3Description: https://katalog.we-online.de/em/datasheet/6130xx11121.pdf?src-supplier=Digikey
footprint 4X1 MALE HEADER (CONN HEADER VERT 4POS 2.54MM)
pins: 1, 2, 3, 4

## 61300511021
designator J?
THT Angled Pin Header WR-PHD, Pitch 2.54 mm, Single Row, 5 pins; Manufacturer: Wurth Electronics; Manufacturer Part Number: 61300511021; Number of Positions: 5; Gender: Male; Voltage Rating: 250V; Supplier 1: Digi-Key; RoHS: Yes; Category: Connectors; Stock 1: 6078; Pricing 1: 1=0.44, 10=0.371, 25=0.3092, 50=0.258, 100=0.235, 1000=0.213 (USD); Mount: Through Hole; Contact Plating: Gold; Contact Material: Copper Alloy,Copper; Contact Shape: Square; Contact Finish - Mating: GOLD; Insulation Material: Nylon; Insulation Color: Black; Min Operating Temperature: -40°C; Max Operating Temperature: 125°C; Number of Rows: 1; Termination: Solder; Number of Contacts: 5; Connector Type: Header; Fastening Type: Pull; Series: WR-PHD; Contact Type: Male Pin; RoHS Compliant: Yes; Flammability Rating: UL94 V-0; Reach SVHC Compliant: Unknown; ComponentLink1URL: http://www.farnell.com/datasheets/1442172.pdf?src-supplier=Farnell; ComponentLink1Description: http://www.farnell.com/datasheets/1442172.pdf?src-supplier=Farnell; ComponentLink2URL: http://www.farnell.com/datasheets/1442172.pdf?src-supplier=Newark; ComponentLink2Description: http://www.farnell.com/datasheets/1442172.pdf?src-supplier=Newark; ComponentLink3URL: http://www.farnell.com/datasheets/1442172.pdf?src-supplier=Element14; ComponentLink3Description: http://www.farnell.com/datasheets/1442172.pdf?src-supplier=Element14; ComponentLink4URL: https://katalog.we-online.de/em/datasheet/6130xx11021.pdf?src-supplier=Digi-Key; ComponentLink4Description: https://katalog.we-online.de/em/datasheet/6130xx11021.pdf?src-supplier=Digi-Key
footprint 5X1 MALE HEADER RA (CONN HEADER VERT 8POS 2.54MM)
pins: 1, 2, 3, 4, 5

## 61300811021
designator J?
THT Angled Pin Header WR-PHD, Pitch 2.54 mm, Single Row, 8 pins; Manufacturer: Wurth Electronics; Manufacturer Part Number: 61300811021; Number of Positions: 8; Gender: Male; Pitch: 0.1inch; Supplier 1: Digi-Key; RoHS: Yes; Category: Connectors; Stock 1: 2128; Pricing 1: 1=0.79, 10=0.668, 25=0.556, 50=0.464, 100=0.422, 1000=0.384 (USD); Mount: Through Hole; Contact Plating: Gold; Contact Material: Copper; Color: Black; Number of Rows: 1; Packaging: Bulk; Termination: Solder; Number of Contacts: 8; Series: WR-PHD; Contact Type: Male Pin; Contact Mating Length: 0.236inch; RoHS Compliant: Yes; Reach SVHC Compliant: Unknown; ComponentLink1URL: http://www.farnell.com/datasheets/1442172.pdf?src-supplier=Farnell; ComponentLink1Description: http://www.farnell.com/datasheets/1442172.pdf?src-supplier=Farnell; ComponentLink2URL: http://www.farnell.com/datasheets/1442172.pdf?src-supplier=Element14; ComponentLink2Description: http://www.farnell.com/datasheets/1442172.pdf?src-supplier=Element14; ComponentLink3URL: http://www.farnell.com/datasheets/1442172.pdf?src-supplier=Newark; ComponentLink3Description: http://www.farnell.com/datasheets/1442172.pdf?src-supplier=Newark
footprint 8X1 MALE HEADER RA (CONN HEADER VERT 8POS 2.54MM)
pins: 1, 2, 3, 4, 5, 6, 7, 8

## 61300811121
designator J?
WURTH ELEKTRONIK         61300811121            Board-To-Board Connector, Vertical, WR-PHD Series, Through Hole, Header, 8 Contacts, 2.54 mm; Manufacturer: Wurth Electronics; Number of Positions: 8; Gender: Male; Connector Type: Male Pin; Pitch: 0.1inch; Supplier 1: Digi-Key; Manufacturer Part Number: 61300811121; Stock 1: 5439; Pricing 1: 1=0.37000, 10=0.31500, 25=0.26320, 50=0.21900, 100=0.19900, 1000=0.18100 (USD); RoHS: Yes; Mount: Through Hole; Contact Plating: Gold; Contact Material: Copper; Color: Black; Number of Rows: 1; Packaging: Bulk; Termination: Solder; Number of Contacts: 8; Contact Mating Length: 0.236inch; REACH SVHC: Unknown; ComponentLink1URL: http://www.farnell.com/cad/1737268.pdf?src-supplier=Element14; ComponentLink1Description: http://www.farnell.com/cad/1737268.pdf?src-supplier=Element14; ComponentLink2URL: https://katalog.we-online.de/em/datasheet/6130xx11121.pdf?src-supplier=Digi-Key; ComponentLink2Description: https://katalog.we-online.de/em/datasheet/6130xx11121.pdf?src-supplier=Digi-Key
footprint 8X1 MALE HEADER (CONN HEADER VERT 8POS 2.54MM)
pins: 1, 2, 3, 4, 5, 6, 7, 8

## 629104190121
designator J?
WURTH ELEKTRONIK - 629104190121 - USB Connector, USB Type A, USB 2.0, Receptacle, 4 Positions, Surface Mount, Horizontal; Manufacturer: Wurth Electronics; Number of Contacts: 4; Number of Ports: 1; Current Rating: 1.5A; Mating Cycles: 1500; Shielding: Shielded; Supplier 1: Digi-Key; Manufacturer Part Number: 629104190121; RoHS: No; Stock 1: 8348; Pricing 1: 1=1.41000, 10=1.18000, 50=1.03000, 100=0.94000 (USD); Mount: Surface Mount; Contact Plating: Gold; Insulation Color: Black; Min Operating Temperature: -40°C; Max Operating Temperature: 85°C; Connector Type: USB; Packaging: Cut Tape; Gender: Receptacle; Termination: Solder; Flammability Rating: UL94 V-0; ComponentLink1URL: https://katalog.we-online.de/em/datasheet/629104190121.pdf?src-supplier=Digi-Key; ComponentLink1Description: https://katalog.we-online.de/em/datasheet/629104190121.pdf?src-supplier=Digi-Key
footprint 629104190121 (CONN RCPT USB2.0 TYPEA 4P SMD RA)
pins: 1 VCC (power), 2 D- (io), 3 D+ (io), 4 GND (power), SHIELD

## FTSH-105-01-L-DV-K-TR
designator J?
SAMTEC - FTSH-105-01-L-DV-K-TR - CONNECTOR, HEADER, 10 POSITION, 2ROW, 1.27MM; Number of Contacts: 10; Max Current Rating: 1.75A; Gender: Male; Connector Type: Male Pin; Row Spacing: 0.05inch; Supplier 1: Digi-Key; Manufacturer: Samtec; Manufacturer Part Number: FTSH-105-01-L-DV-K-TR; RoHS: Yes; Category: Headers and Wire Housings; Stock 1: 307; Pricing 1: 1=3.60000, 10=3.45800, 100=2.88200 (USD); Mount: Surface Mount; Contact Plating: Gold; Contact Material: Bronze; Color: Black; Housing Color: Black; Housing Material: Polymer; Min Operating Temperature: -55°C; Max Operating Temperature: 125°C; Number of Rows: 2; Termination: Solder; Packaging: Tape and Reel; Package Quantity: 550; Number of Positions: 10; Orientation: Straight; Current Rating: 1.75A; Length: 6.35mm; Pitch: 1.27mm; Contact Mating Length: 0.12inch; Depth: 3.43mm; Radiation Hardening: No; REACH SVHC: No SVHC; Lead Free: Lead Free; ComponentLink1URL: https://datasheet.ciiva.com/739/ftsh-1xx-xx-xxx-dv-xxx-mkt-739005.pdf?src-supplier=Digi-Key; ComponentLink1Description: https://datasheet.ciiva.com/739/ftsh-1xx-xx-xxx-dv-xxx-mkt-739005.pdf?src-supplier=Digi-Key; ComponentLink2URL: https://datasheet.ciiva.com/23735/81359-23735917.pdf?src-supplier=Newark; ComponentLink2Description: https://datasheet.ciiva.com/23735/81359-23735917.pdf?src-supplier=Newark; ComponentLink3URL: https://datasheet.ciiva.com/10245/ftsh-mt-10245289.pdf?src-supplier=Avnet; ComponentLink3Description: https://datasheet.ciiva.com/10245/ftsh-mt-10245289.pdf?src-supplier=Avnet
footprint FTSH-105-01-L-DV-K-TR (CONN HEADER SMD 10POS 1.27MM)
pins: 1, 2, 3, 4, 5, 6, 7, 8, 9, 10

## GC_HEADER
designator J?
footprint GC_HEADER
pins: 1 3V3 (power), 2 5V (power), 3 DATA (io), 4 GND (power), 5 RUMBLE_GND (power), 6 GND (power)

## GC_PLUG
designator J?
footprint GC_PLUG
pins: 1 5V (power), 2 RUMBLE_GND (power), 3 DATA (io), 4 GND (power), 5 GND (power), 6 3V3 (power), SHIELD (power)

## LSHM-110-02.5-L-DV-A-S-K-TR
designator J?
HERMAPHRODITIC 0.50MM SMD 20POS 2.5MM; Manufacturer: Samtec; Manufacturer Part Number: LSHM-110-02.5-L-DV-A-S-K-TR; Connector Type: Non-Gendered; Number of Positions: 20; Mated Stacking Heights: 8.5mm; Supplier 1: Digi-Key; RoHS: No; Stock 1: 1318; Pricing 1: 1=5.89000, 10=5.65000, 25=5.17880, 50=4.94340, 100=4.70800, 250=4.11952 (USD); Mount: Surface Mount; Contact Plating: Gold; Features: Shielded; Packaging: Tape and Reel; Number of Rows: 2; ComponentLink1URL: http://suddendocs.samtec.com/prints/lshm-1xx-xx.x-xx-dv-a-x-x-tr-mkt.pdf?src-supplier=Digi-Key; ComponentLink1Description: http://suddendocs.samtec.com/prints/lshm-1xx-xx.x-xx-dv-a-x-x-tr-mkt.pdf?src-supplier=Digi-Key
footprint LSHM-110-02.5-L-DV-A-S (CONN SELF-MATE 20POS SMD GOLD)
pins: 1, 2, 3, 4, 5, 6, 7, 8, 9, 10, 11, 12, 13, 14, 15, 16, 17, 18, 19, 20, SHIELD

## LSHM-110-04.0-L-DV-A-S-K-TR
designator J?
HERMAPHRODITIC 0.50MM SMD 20POS 4MM; Manufacturer: Samtec; Manufacturer Part Number: LSHM-110-04.0-L-DV-A-S-K-TR; Supplier 1: Digi-Key; RoHS: No; Pricing 1: 625=3.77400 (USD)
footprint LSHM-110-04.0-L-DV-A-S (CONN SELF-MATE 20POS SMD GOLD)
pins: 1, 2, 3, 4, 5, 6, 7, 8, 9, 10, 11, 12, 13, 14, 15, 16, 17, 18, 19, 20, SHIELD

## S2B-PH-K-S
designator J?
Header S2B-PH-K-S, 2.00mm, 2-contacts, side entry, THT /1000/box/; Manufacturer: JST; Connector Type: Male Pin; Contact Resistance: 20mΩ; Current Rating: 2A; Dielectric Material: Polyamide; Gender: Male; Insulation Resistance: 1GΩ; Number of Contacts: 2; Pitch: 2.0066mm; Supplier 1: DigiKey; Manufacturer Part Number: S2B-PH-K-S; RoHS: Compliant; Category: Headers and Wire Housings; Stock 1: 921970; Pricing 1: 1=0.1, 10=0.082, 100=0.0698, 500=0.06228, 1000=0.05929, 5000=0.05292, 10000=0.05039 (USD); Contact Gender: Male; Contact Material: Brass; Contact Mating Length: 3.302mm; Contact Plating: Tin; Fastening Type: Detent; Housing Color: Natural; Housing Material: Nylon; Lead Free: Contains Lead; Lead Pitch: 2mm; Lifecycle Status: Obsolete; Max Operating Temperature: 85°C; Min Operating Temperature: -25°C; Mounting Technology: Through Hole; Pins: 2; Number of Positions: 2; Number of Rows: 1; Orientation: Horizontal; Packaging: Bulk; Terminal Pitch: 2mm; Termination: Press-Fit; ComponentLink1URL: https://datasheet.octopart.com:443/S2B-PH-K-S-JST-datasheet-15068535.pdf?src-supplier=IHS; ComponentLink1Description: https://datasheet.octopart.com:443/S2B-PH-K-S-JST-datasheet-15068535.pdf?src-supplier=IHS; ComponentLink2URL: https://datasheet.octopart.com:443/S2B-PH-K-S-JST-datasheet-12510261.pdf?src-supplier=TME; ComponentLink2Description: https://datasheet.octopart.com:443/S2B-PH-K-S-JST-datasheet-12510261.pdf?src-supplier=TME; ComponentLink3URL: https://datasheet.octopart.com:443/S2B-PH-K-S-JST-datasheet-56537.pdf?src-supplier=DigiKey; ComponentLink3Description: https://datasheet.octopart.com:443/S2B-PH-K-S-JST-datasheet-56537.pdf?src-supplier=DigiKey; ComponentLink4URL: https://datasheet.octopart.com:443/S2B-PH-K-S-JST-datasheet-159515011.pdf?src-supplier=Amar+Radio+Corporation; ComponentLink4Description: https://datasheet.octopart.com:443/S2B-PH-K-S-JST-datasheet-159515011.pdf?src-supplier=Amar+Radio+Corporation
footprint S2B-PH-K-S (CONN HEADER R/A 2POS 2MM)
pins: 1, 2

## SJ-3524-SMT-TR
designator J?
Conn 3.5MM Audio Jack F 4 POS Solder RA SMD 3 Terminal 1 Port T/R; Manufacturer: CUI; Manufacturer Part Number: SJ-3524-SMT-TR; Number of Conductors: 3; Number of Ports: 1; Gender: Female; Shielding: Unshielded; Current Rating: 1A; Supplier 1: Digi-Key; RoHS: Yes; Category: Connectors; Stock 1: 138416; Pricing 1: 1=1.04000, 10=0.91700, 25=0.86320, 50=0.82740, 100=0.79130, 250=0.71940, 500=0.64746 (USD); Mount: Surface Mount; Case/Package: SMD/SMT; Color: Black; Contact Plating: Silver; Connector Type: Jack; Orientation: Horizontal; Termination: Solder; Packaging: Tape and Reel; Lead Free: Lead Free; ComponentLink1URL: https://datasheet.ciiva.com/7356/sj-352x-smt-series-7356584.pdf?src-supplier=Digi-Key; ComponentLink1Description: https://datasheet.ciiva.com/7356/sj-352x-smt-series-7356584.pdf?src-supplier=Digi-Key; ComponentLink2URL: https://datasheet.ciiva.com/16486/sj-352x-smt-series-16486874.pdf?src-supplier=Future+Electronics; ComponentLink2Description: https://datasheet.ciiva.com/16486/sj-352x-smt-series-16486874.pdf?src-supplier=Future+Electronics
footprint SJ-3524-SMT-TR (CONN JACK STEREO 3.5MM SMD R/A)
pins: 1, 2, 3, 4

## SLW20S-1C7LF
designator J?
CONN FFC FPC VERT 20POS 1MM PCB; Manufacturer: Amphenol FCI; Manufacturer Part Number: SLW20S-1C7LF; Actuator Material: Nylon,Glass,Polyamide; Number of Contacts: 20; Contact Resistance: 30mR; Current Rating: 1A; Voltage Rating (AC): 100V; Wire/Cable Type: Straight; Contact Location: Bottom; Insulation Resistance: 500MR; Supplier 1: Digi-Key; RoHS: Yes; Category: FFC / FPC; Stock 1: 2086; Pricing 1: 1=0.46000, 10=0.43500, 25=0.39160, 50=0.34800, 100=0.33350, 250=0.30452, 500=0.29000, 1000=0.23925, 2500=0.21750 (USD); Mount: Through Hole; Housing Color: Black; Contact Material: Bronze; Housing Material: Nylon; Contact Plating: Tin; Min Operating Temperature: -55°C; Max Operating Temperature: 85°C; Orientation: Straight; Number of Rows: 1; Termination: Solder; Packaging: Tray; Package Quantity: 100; Voltage Rating: 100V; Number of Positions: 20; Max Voltage Rating (AC): 100V; Max Voltage Rating (DC): 100V; Length: 26.2mm; Pitch: 1mm; Width: 4mm; Depth: 4mm; Radiation Hardening: No; Lead Free: Lead Free; Flammability Rating: UL94 V-0; ComponentLink1URL: https://datasheet.ciiva.com/16659/slw01lf-16659322.pdf?src-supplier=Avnet+Europe; ComponentLink1Description: https://datasheet.ciiva.com/16659/slw01lf-16659322.pdf?src-supplier=Avnet+Europe; ComponentLink2URL: https://datasheet.ciiva.com/670/slw01lf-670757.pdf?src-supplier=Digi-Key; ComponentLink2Description: https://datasheet.ciiva.com/670/slw01lf-670757.pdf?src-supplier=Digi-Key
footprint SLW20S-1C7LF (CONN FFC FPC VERT 20POS 1MM PCB)
pins: 1, 2, 3, 4, 5, 6, 7, 8, 9, 10, 11, 12, 13, 14, 15, 16, 17, 18, 19, 20

## TC2030-NL
designator J?
6-Pin No-Legs Tag-Connect Plug-of-Nails™ Cable with Ribbon Connector
footprint TC2030-NL (6-Pin Tag-Connect)
pins: 1, 2, 3, 4, 5, 6

## UE27AC54100
designator J?
CONN RCPT USB TYPE A R/A GOLD; Manufacturer: Amphenol Commercial; Manufacturer Part Number: UE27AC54100; Number of Contacts: 4; Number of Ports: 1; Gender: Receptacle; Max Voltage Rating (AC): 30V; Supplier 1: Digi-Key; RoHS: Yes; Category: USB Connectors; Stock 1: 21986; Pricing 1: 1=0.53000, 10=0.49900, 25=0.44920, 50=0.39940, 100=0.38270, 250=0.34948, 500=0.33282, 1000=0.27458, 2500=0.24962 (USD); Mount: Through Hole,Horizontal; Case/Package: Module; Contact Plating: Gold,Tin; Housing Material: Thermoplastic; Number of Terminals: 4; Contact Material: Nickel,Copper Alloy; Color: Black; Min Operating Temperature: -55°C; Max Operating Temperature: 85°C; Termination: Solder; Connector Type: USB; Packaging: Tray; Orientation: Right Angle; Number of Positions: 4; Package Quantity: 120; Length: 14.5mm; Depth: 13.85mm; Radiation Hardening: No; Flammability Rating: UL94 V-0; REACH SVHC: Unknown; Lead Free: Lead Free; ComponentLink1URL: https://datasheet.ciiva.com/3095/usb-cat-3095736.pdf?src-supplier=Avnet; ComponentLink1Description: https://datasheet.ciiva.com/3095/usb-cat-3095736.pdf?src-supplier=Avnet; ComponentLink2URL: https://datasheet.ciiva.com/851/ue27acx4x0x-851297.pdf?src-supplier=Digi-Key; ComponentLink2Description: https://datasheet.ciiva.com/851/ue27acx4x0x-851297.pdf?src-supplier=Digi-Key; ComponentLink3URL: https://datasheet.ciiva.com/12494/ue27acx4x0x-45641-12494043.pdf?src-supplier=Mouser; ComponentLink3Description: https://datasheet.ciiva.com/12494/ue27acx4x0x-45641-12494043.pdf?src-supplier=Mouser
footprint UE27AC54100 (CONN RCPT USB2.0 TYPEA 4POS R/A)
pins: 1 VCC (power), 2 D- (io), 3 D+ (io), 4 GND (power), SHIELD

## USB4105-GF-A
designator J?
Conn USB 2.0 Type C RCP 24 POS 0.3mm/0.5mm Solder RA SMD 24 Terminal 1 Port T/R; Manufacturer: Global Connector Technology; Manufacturer Part Number: USB4105-GF-A; Voltage Rating: 20V; USB Standard: 6108USBStandard; Number of Contacts: 16NUMBER; Gender: Receptacle; Mating Cycles: 10000; Shielding: Shielded; Number of Ports: 1; Supplier 1: Digikey; RoHS: No; Category: USB Connectors; Stock 1: 108823; Pricing 1: 1=0.78, 10=0.659, 25=0.6172, 50=0.5878, 100=0.5597, 250=0.5246, 800=0.48321, 1600=0.46014, 2400=0.44716, 4000=0.43134, 5600=0.42122, 8000=0.41076, 20000=0.38507 (USD); Mounting Technology: Surface Mount,Through Hole,Horizontal; Pins: 16; Contact Material: 153,157ConductorMaterial; Contact Plating: Gold; Insulation Color: Black; Min Operating Temperature: -40°C; Max Operating Temperature: 85°C; Orientation: Horizontal; Connector Type: USB; Series: USB4105; Termination: Solder; Height: 3.46mm; Flammability Rating: UL94 V-0; ComponentLink1URL: https://gct.co/files/drawings/usb4105.pdf?src-supplier=Digikey; ComponentLink1Description: https://gct.co/files/drawings/usb4105.pdf?src-supplier=Digikey; ComponentLink2URL: https://datasheet.octopart.com/USB4105-GF-A-GCT-datasheet-188935996.pdf?src-supplier=TME; ComponentLink2Description: https://datasheet.octopart.com/USB4105-GF-A-GCT-datasheet-188935996.pdf?src-supplier=TME
footprint USB4105-GF-A (USB-C (USB TYPE-C) USB 2.0 Receptacle Connector 24 (16+8 Dummy) Position Surface Mount, Right Angle; Through Hole)
pins: A1/B12 GND (power), A4/B9 VBUS (power), A5 CC1 (io), A6 D_P (in), A7 D_N (in), A8 SBU1 (in), B1/A12 GND (power), B4/A9 VBUS (power), B5 CC2 (io), B6 D_P (in), B7 D_N (in), B8 SBU2 (in), SHIELD